# Altium schematic symbol library MyProject1.SchLib: 13 symbols
Pins are listed as number, name and electrical type; pins without a type are passive.

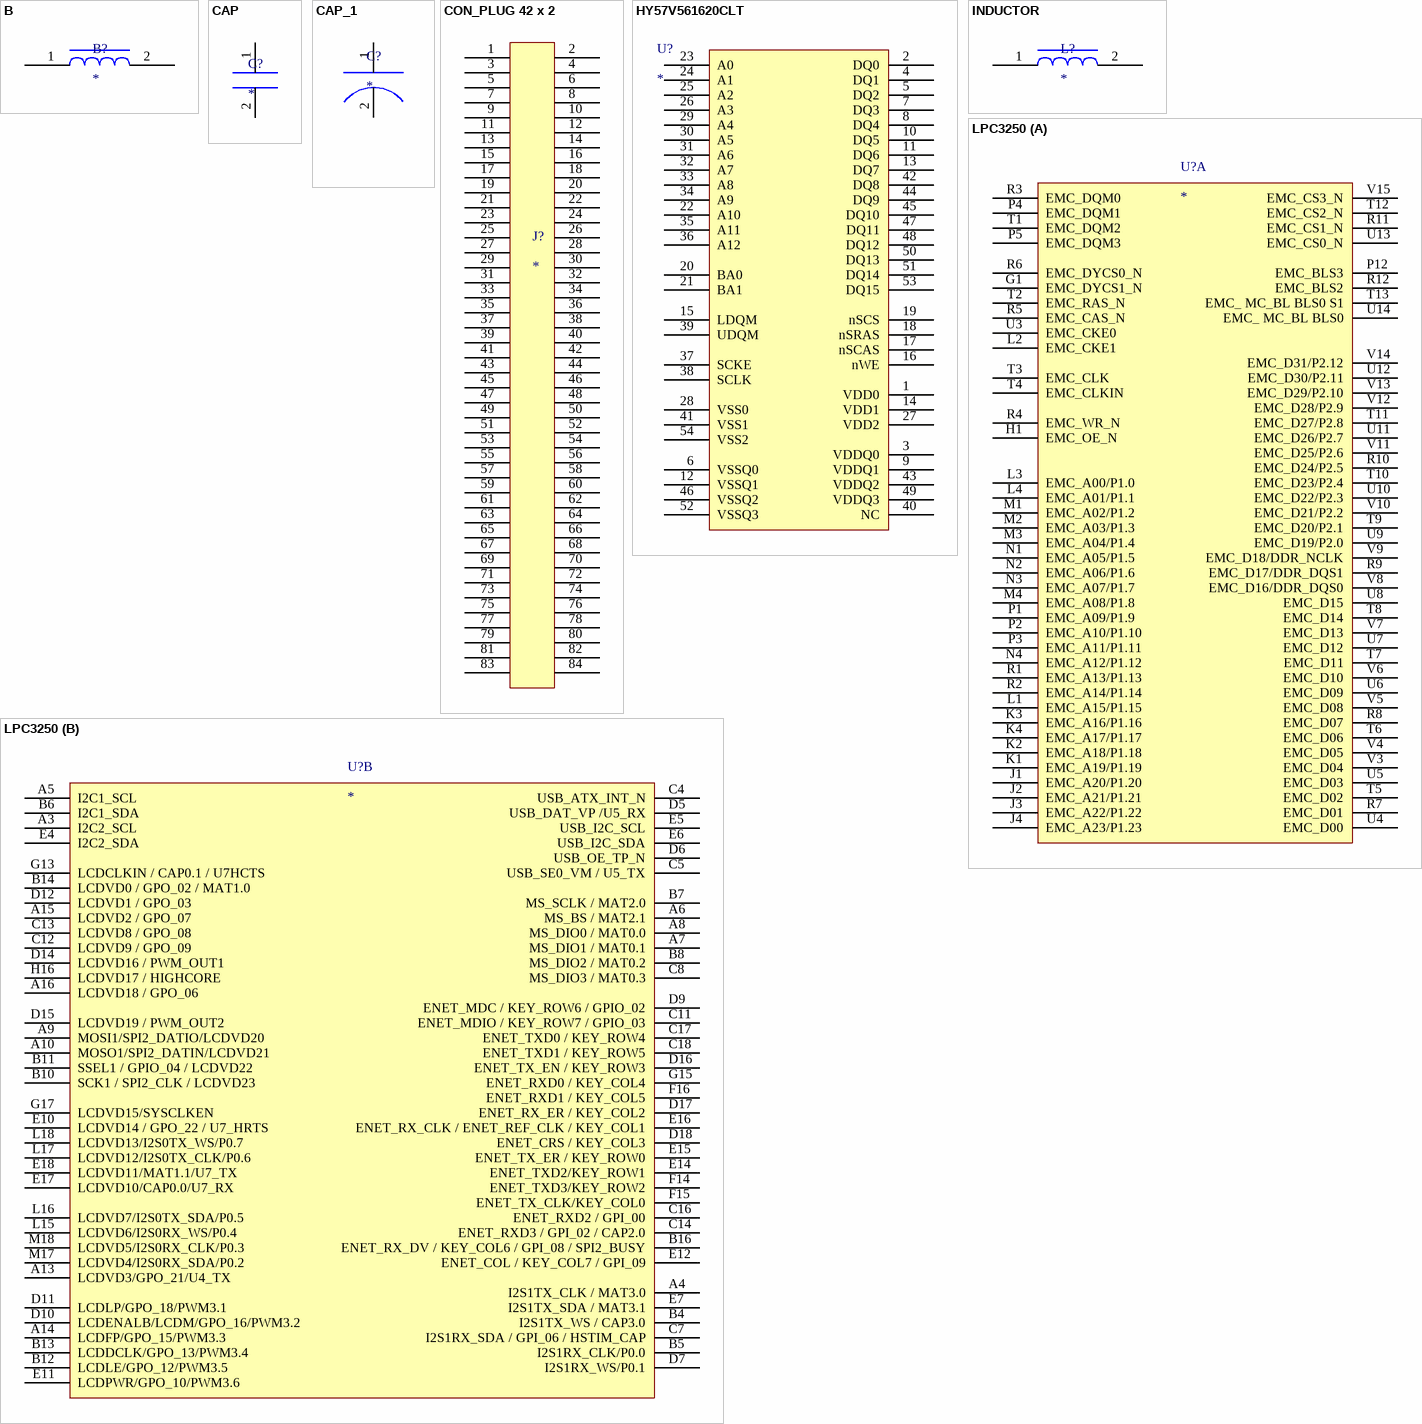
[diagram p0: symbols B to LPC3250]

## B
designator B?
footprint 0603
pins: 1, 2

## CAP
designator C?
footprint 0603C
pins: 1, 2

## CAP_1
designator C?
footprint TC-3528
pins: 1, 2

## CON_PLUG 42 x 2
designator J?
footprint DIP84
pins: 1, 2, 3, 4, 5, 6, 7, 8, 9, 10, 11, 12, 13, 14, 15, 16, 17, 18, 19, 20, 21, 22, 23, 24, 25, 26, 27, 28, 29, 30, 31, 32, 33, 34, 35, 36, 37, 38, 39, 40, 41, 42, 43, 44, 45, 46, 47, 48, 49, 50, 51, 52, 53, 54, 55, 56, 57, 58, 59, 60, 61, 62, 63, 64, 65, 66, 67, 68, 69, 70, 71, 72, 73, 74, 75, 76, 77, 78, 79, 80, 81, 82, 83, 84

## HY57V561620CLT
designator U?
footprint TSSOP-54
pins: 1 VDD0, 2 DQ0, 3 VDDQ0, 4 DQ1, 5 DQ2, 6 VSSQ0, 7 DQ3, 8 DQ4, 9 VDDQ1, 10 DQ5, 11 DQ6, 12 VSSQ1, 13 DQ7, 14 VDD1, 15 LDQM, 16 nWE, 17 nSCAS, 18 nSRAS, 19 nSCS, 20 BA0, 21 BA1, 22 A10, 23 A0, 24 A1, 25 A2, 26 A3, 27 VDD2, 28 VSS0, 29 A4, 30 A5, 31 A6, 32 A7, 33 A8, 34 A9, 35 A11, 36 A12, 37 SCKE, 38 SCLK, 39 UDQM, 40 NC, 41 VSS1, 42 DQ8, 43 VDDQ2, 44 DQ9, 45 DQ10, 46 VSSQ2, 47 DQ11, 48 DQ12, 49 VDDQ3, 50 DQ13, 51 DQ14, 52 VSSQ3, 53 DQ15, 54 VSS2

## INDUCTOR
designator L?
footprint 0805
pins: 1, 2

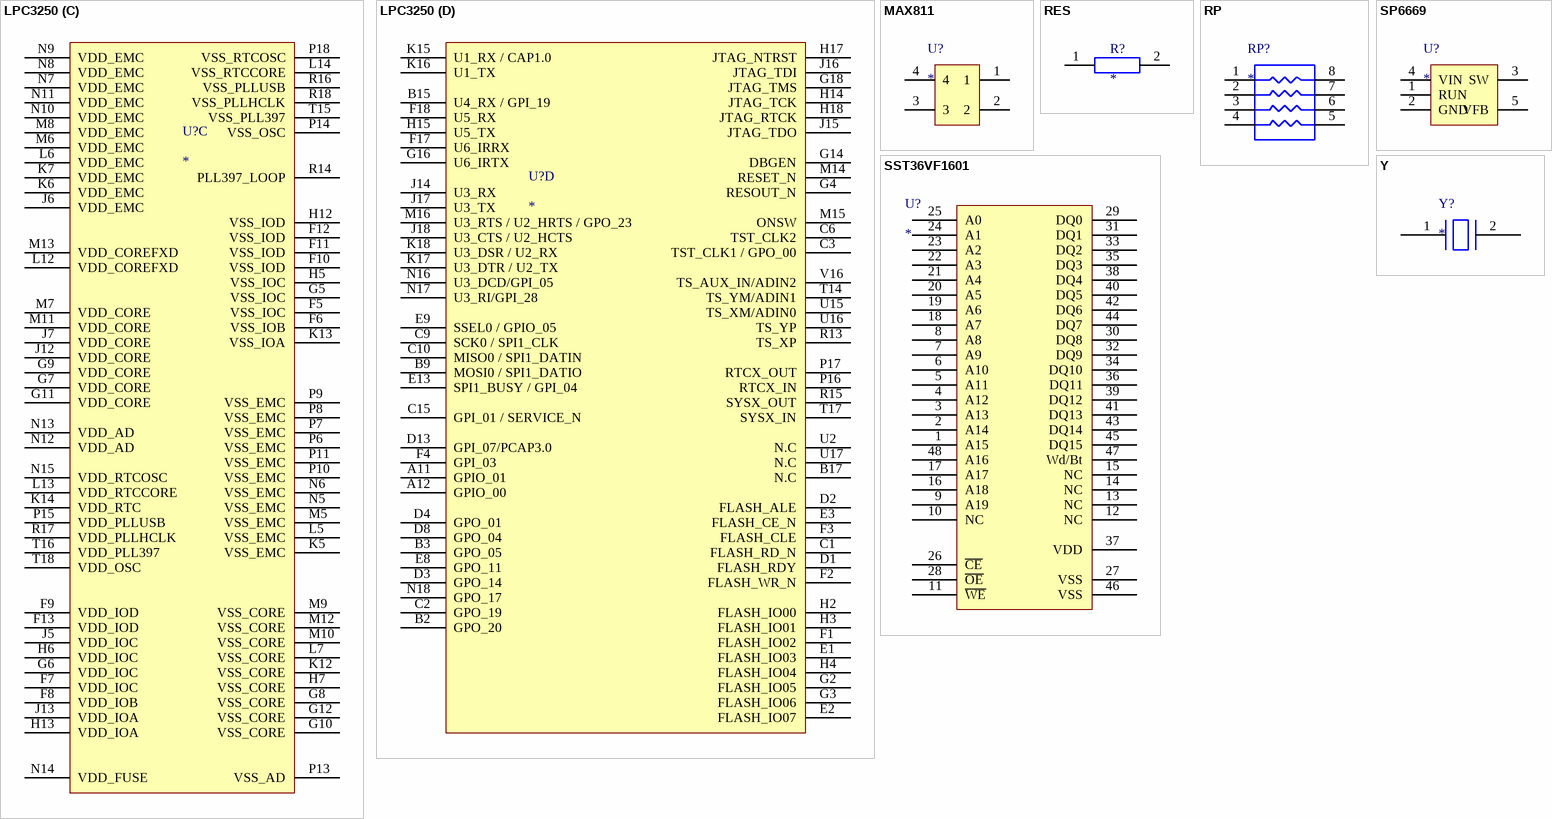
[diagram p1: symbols LPC3250 to Y]

## LPC3250
designator U?
footprint TFBGA296
part A pins: G1 EMC_DYCS1_N, H1 EMC_OE_N, J1 EMC_A20/P1.20, J2 EMC_A21/P1.21, J3 EMC_A22/P1.22, J4 EMC_A23/P1.23, K1 EMC_A19/P1.19, K2 EMC_A18/P1.18, K3 EMC_A16/P1.16, K4 EMC_A17/P1.17, L1 EMC_A15/P1.15, L2 EMC_CKE1, L3 EMC_A00/P1.0, L4 EMC_A01/P1.1, M1 EMC_A02/P1.2, M2 EMC_A03/P1.3, M3 EMC_A04/P1.4, M4 EMC_A08/P1.8, N1 EMC_A05/P1.5, N2 EMC_A06/P1.6, N3 EMC_A07/P1.7, N4 EMC_A12/P1.12, P1 EMC_A09/P1.9, P2 EMC_A10/P1.10, P3 EMC_A11/P1.11, P4 EMC_DQM1, P5 EMC_DQM3, P12 EMC_BLS3, R1 EMC_A13/P1.13, R2 EMC_A14/P1.14, R3 EMC_DQM0, R4 EMC_WR_N, R5 EMC_CAS_N, R6 EMC_DYCS0_N, R7 EMC_D01, R8 EMC_D07, R9 EMC_D17/DDR_DQS1, R10 EMC_D24/P2.5, R11 EMC_CS1_N, R12 EMC_BLS2, T1 EMC_DQM2, T2 EMC_RAS_N, T3 EMC_CLK, T4 EMC_CLKIN, T5 EMC_D02, T6 EMC_D06, T7 EMC_D11, T8 EMC_D14, T9 EMC_D20/P2.1, T10 EMC_D23/P2.4, T11 EMC_D27/P2.8, T12 EMC_CS2_N, T13 EMC_ MC_BL BLS0 S1, U3 EMC_CKE0, U4 EMC_D00, U5 EMC_D03, U6 EMC_D09, U7 EMC_D12, U8 EMC_D15, U9 EMC_D19/P2.0, U10 EMC_D22/P2.3, U11 EMC_D26/P2.7, U12 EMC_D30/P2.11, U13 EMC_CS0_N, U14 EMC_ MC_BL BLS0, V3 EMC_D04, V4 EMC_D05, V5 EMC_D08, V6 EMC_D10, V7 EMC_D13, V8 EMC_D16/DDR_DQS0, V9 EMC_D18/DDR_NCLK, V10 EMC_D21/P2.2, V11 EMC_D25/P2.6, V12 EMC_D28/P2.9, V13 EMC_D29/P2.10, V14 EMC_D31/P2.12, V15 EMC_CS3_N
part B pins: A3 I2C2_SCL, A4 I2S1TX_CLK / MAT3.0, A5 I2C1_SCL, A6 MS_BS / MAT2.1, A7 MS_DIO1 / MAT0.1, A8 MS_DIO0 / MAT0.0, A9 MOSI1/SPI2_DATIO/LCDVD20, A10 MOSO1/SPI2_DATIN/LCDVD21, A13 LCDVD3/GPO_21/U4_TX, A14 LCDFP/GPO_15/PWM3.3, A15 LCDVD2 / GPO_07, A16 LCDVD18 / GPO_06, B4 I2S1TX_WS / CAP3.0, B5 I2S1RX_CLK/P0.0, B6 I2C1_SDA, B7 MS_SCLK / MAT2.0, B8 MS_DIO2 / MAT0.2, B10 SCK1 / SPI2_CLK / LCDVD23, B11 SSEL1 / GPIO_04 / LCDVD22, B12 LCDLE/GPO_12/PWM3.5, B13 LCDDCLK/GPO_13/PWM3.4, B14 LCDVD0 / GPO_02 / MAT1.0, B16 ENET_RX_DV / KEY_COL6 / GPI_08 / SPI2_BUSY, C4 USB_ATX_INT_N, C5 USB_SE0_VM / U5_TX, C7 I2S1RX_SDA / GPI_06 / HSTIM_CAP, C8 MS_DIO3 / MAT0.3, C11 ENET_MDIO / KEY_ROW7 / GPIO_03, C12 LCDVD9 / GPO_09, C13 LCDVD8 / GPO_08, C14 ENET_RXD3 / GPI_02 / CAP2.0, C16 ENET_RXD2 / GPI_00, C17 ENET_TXD0 / KEY_ROW4, C18 ENET_TXD1 / KEY_ROW5, D5 USB_DAT_VP /U5_RX, D6 USB_OE_TP_N, D7 I2S1RX_WS/P0.1, D9 ENET_MDC / KEY_ROW6 / GPIO_02, D10 LCDENALB/LCDM/GPO_16/PWM3.2, D11 LCDLP/GPO_18/PWM3.1, D12 LCDVD1 / GPO_03, D14 LCDVD16 / PWM_OUT1, D15 LCDVD19 / PWM_OUT2, D16 ENET_TX_EN / KEY_ROW3, D17 ENET_RX_ER / KEY_COL2, D18 ENET_CRS / KEY_COL3, E4 I2C2_SDA, E5 USB_I2C_SCL, E6 USB_I2C_SDA, E7 I2S1TX_SDA / MAT3.1, E10 LCDVD14 / GPO_22 / U7_HRTS, E11 LCDPWR/GPO_10/PWM3.6, E12 ENET_COL / KEY_COL7 / GPI_09, E14 ENET_TXD2/KEY_ROW1, E15 ENET_TX_ER / KEY_ROW0, E16 ENET_RX_CLK / ENET_REF_CLK / KEY_COL1, E17 LCDVD10/CAP0.0/U7_RX, E18 LCDVD11/MAT1.1/U7_TX, F14 ENET_TXD3/KEY_ROW2, F15 ENET_TX_CLK/KEY_COL0, F16 ENET_RXD1 / KEY_COL5, G13 LCDCLKIN / CAP0.1 / U7HCTS, G15 ENET_RXD0 / KEY_COL4, G17 LCDVD15/SYSCLKEN, H16 LCDVD17 / HIGHCORE, L15 LCDVD6/I2S0RX_WS/P0.4, L16 LCDVD7/I2S0TX_SDA/P0.5, L17 LCDVD12/I2S0TX_CLK/P0.6, L18 LCDVD13/I2S0TX_WS/P0.7, M17 LCDVD4/I2S0RX_SDA/P0.2, M18 LCDVD5/I2S0RX_CLK/P0.3
part C pins: F5 VSS_IOC, F6 VSS_IOB, F7 VDD_IOC, F8 VDD_IOB, F9 VDD_IOD, F10 VSS_IOD, F11 VSS_IOD, F12 VSS_IOD, F13 VDD_IOD, G5 VSS_IOC, G6 VDD_IOC, G7 VDD_CORE, G8 VSS_CORE, G9 VDD_CORE, G10 VSS_CORE, G11 VDD_CORE, G12 VSS_CORE, H5 VSS_IOC, H6 VDD_IOC, H7 VSS_CORE, H12 VSS_IOD, H13 VDD_IOA, J5 VDD_IOC, J6 VDD_EMC, J7 VDD_CORE, J12 VDD_CORE, J13 VDD_IOA, K5 VSS_EMC, K6 VDD_EMC, K7 VDD_EMC, K12 VSS_CORE, K13 VSS_IOA, K14 VDD_RTC, L5 VSS_EMC, L6 VDD_EMC, L7 VSS_CORE, L12 VDD_COREFXD, L13 VDD_RTCCORE, L14 VSS_RTCCORE, M5 VSS_EMC, M6 VDD_EMC, M7 VDD_CORE, M8 VDD_EMC, M9 VSS_CORE, M10 VSS_CORE, M11 VDD_CORE, M12 VSS_CORE, M13 VDD_COREFXD, N5 VSS_EMC, N6 VSS_EMC, N7 VDD_EMC, N8 VDD_EMC, N9 VDD_EMC, N10 VDD_EMC, N11 VDD_EMC, N12 VDD_AD, N13 VDD_AD, N14 VDD_FUSE, N15 VDD_RTCOSC, P6 VSS_EMC, P7 VSS_EMC, P8 VSS_EMC, P9 VSS_EMC, P10 VSS_EMC, P11 VSS_EMC, P13 VSS_AD, P14 VSS_OSC, P15 VDD_PLLUSB, P18 VSS_RTCOSC, R14 PLL397_LOOP, R16 VSS_PLLUSB, R17 VDD_PLLHCLK, R18 VSS_PLLHCLK, T15 VSS_PLL397, T16 VDD_PLL397, T18 VDD_OSC
part D pins: A11 GPIO_01, A12 GPIO_00, B2 GPO_20, B3 GPO_05, B9 MOSI0 / SPI1_DATIO, B15 U4_RX / GPI_19, B17 N.C, C1 FLASH_RD_N, C2 GPO_19, C3 TST_CLK1 / GPO_00, C6 TST_CLK2, C9 SCK0 / SPI1_CLK, C10 MISO0 / SPI1_DATIN, C15 GPI_01 / SERVICE_N, D1 FLASH_RDY, D2 FLASH_ALE, D3 GPO_14, D4 GPO_01, D8 GPO_04, D13 GPI_07/PCAP3.0, E1 FLASH_IO03, E2 FLASH_IO07, E3 FLASH_CE_N, E8 GPO_11, E9 SSEL0 / GPIO_05, E13 SPI1_BUSY / GPI_04, F1 FLASH_IO02, F2 FLASH_WR_N, F3 FLASH_CLE, F4 GPI_03, F17 U6_IRRX, F18 U5_RX, G2 FLASH_IO05, G3 FLASH_IO06, G4 RESOUT_N, G14 DBGEN, G16 U6_IRTX, G18 JTAG_TMS, H2 FLASH_IO00, H3 FLASH_IO01, H4 FLASH_IO04, H14 JTAG_TCK, H15 U5_TX, H17 JTAG_NTRST, H18 JTAG_RTCK, J14 U3_RX, J15 JTAG_TDO, J16 JTAG_TDI, J17 U3_TX, J18 U3_CTS / U2_HCTS, K15 U1_RX / CAP1.0, K16 U1_TX, K17 U3_DTR / U2_TX, K18 U3_DSR / U2_RX, M14 RESET_N, M15 ONSW, M16 U3_RTS / U2_HRTS / GPO_23, N16 U3_DCD/GPI_05, N17 U3_RI/GPI_28, N18 GPO_17, P16 RTCX_IN, P17 RTCX_OUT, R13 TS_XP, R15 SYSX_OUT, T14 TS_YM/ADIN1, T17 SYSX_IN, U2 N.C, U15 TS_XM/ADIN0, U16 TS_YP, U17 N.C, V16 TS_AUX_IN/ADIN2

## MAX811
designator U?
footprint MAX811
pins: 1, 2, 3, 4

## RES
designator R?
footprint 0603R
pins: 1, 2

## RP
designator RP?
footprint PZ-4-0.8B
pins: 1, 2, 3, 4, 5, 6, 7, 8

## SP6669
designator U?
footprint SOT-23-5
pins: 1 RUN, 2 GND, 3 SW, 4 VIN, 5 VFB

## SST36VF1601
designator U?
footprint TSOP-48
pins: 1 A15, 2 A14, 3 A13, 4 A12, 5 A11, 6 A10, 7 A9, 8 A8, 9 A19, 10 NC, 11 ~{WE}, 12 NC, 13 NC, 14 NC, 15 NC, 16 A18, 17 A17, 18 A7, 19 A6, 20 A5, 21 A4, 22 A3, 23 A2, 24 A1, 25 A0, 26 ~{CE}, 27 VSS, 28 ~{OE}, 29 DQ0, 30 DQ8, 31 DQ1, 32 DQ9, 33 DQ2, 34 DQ10, 35 DQ3, 36 DQ11, 37 VDD, 38 DQ4, 39 DQ12, 40 DQ5, 41 DQ13, 42 DQ6, 43 DQ14, 44 DQ7, 45 DQ15, 46 VSS, 47 Wd/Bt, 48 A16

## Y
designator Y?
footprint XTAL-D
pins: 1, 2